# Altium schematic symbol library GenericR.SchLib: 2 symbols
Pins are listed as number, name and electrical type; pins without a type are passive.

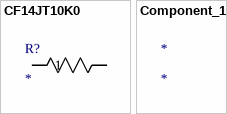
[diagram p0: symbols CF14JT10K0 to Component_1]

## CF14JT10K0
designator R?
Imported; Manufacturer_Part_Number: CF14JT10K0; Vendor: Stackpole International; Built_By: EMA_UL_Team; C: Copyright (C) 2015 Accelerated Designs. All rights reserved; RefDes: RefDes; Type: DEV; Value: Value
footprint STA_CF14
pins: 1, 2

## Component_1
designator *